# Altium schematic symbol library Schlib1.SchLib: 1 symbol
Pins are listed as number, name and electrical type; pins without a type are passive.

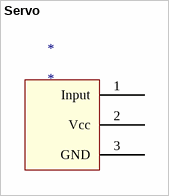
[diagram p0: symbol Servo]

## Servo
designator *
footprint CON3-2 (CON3 THANG)
pins: 1 Input, 2 Vcc, 3 GND